# Altium footprint library PcbLib1.PcbLib: 2 footprints
Each footprint in its own frame and in the unit in brackets; x right, y up, seen from the top. Pads: shape width x height; smd on the part's side, far side on the other; paste and mask are expansions set on the pad; w line width, h text height; cw(c..) or ccw(c..) is an arc to the next point about the centre after c.
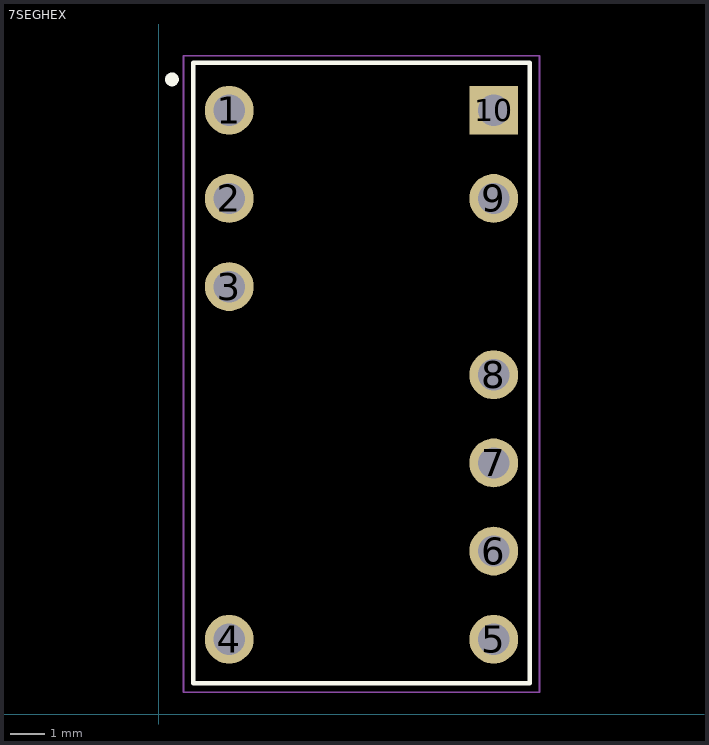
[diagram p0: the footprints below, top view; thin cyan lines are the x and y axes]

## 7SEGHEX [mil]
height 511.81
pads (10):
  round 55.43 hole 35.43: 1(80,685) 2(80,585) 3(80,485) 4(80,85) 5(380,85) 6(380,185) 7(380,285) 8(380,385) 9(380,585)
  rect 55.43x55.43 hole 35.43: 10(380,685)
Top Overlay:
  circle w7.87: c15.04,720.04 r3.94
  lines w5: 39.06,35 39.06,738.94 420.94,738.94 420.94,35 39.06,35
Mechanical 15:
  lines w1.97: 28.03,25 431.97,25 431.97,746.81 28.03,746.81 28.03,25

## PCBComponent_1 [mil]